# EAGLE library part MCP73837-DEV (library MCP73837)
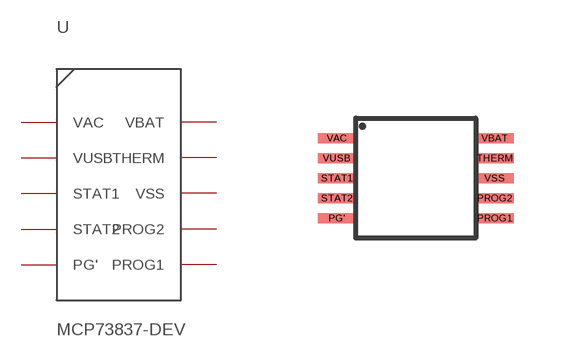
[diagram p0: symbol with the pads of MCP73837; footprint MCP73837]

Designator prefix -

## MCP73837-DEV  [MCP73837]
PG'  PG'
PROG1  PROG1
PROG2  PROG2
STAT1  STAT1
STAT2  STAT2
THERM  THERM
VAC  VAC
VBAT  VBAT
VSS  VSS
VUSB  VUSB

## Footprint MCP73837 (pad centres in mm)
smd 0.95 x 0.25: PG' -0.475,0.5; PROG1 3.475,0.5; PROG2 3.475,1; STAT1 -0.475,1.5; STAT2 -0.475,1; THERM 3.475,2; VAC -0.475,2.5; VBAT 3.475,2.5; VSS 3.475,1.5; VUSB -0.475,2